# Altium footprint library SOJ.PcbLib: 5 footprints
Each footprint in its own frame and in the unit in brackets; x right, y up, seen from the top. Pads: shape width x height; smd on the part's side, far side on the other; paste and mask are expansions set on the pad; w line width, h text height; cw(c..) or ccw(c..) is an arc to the next point about the centre after c.
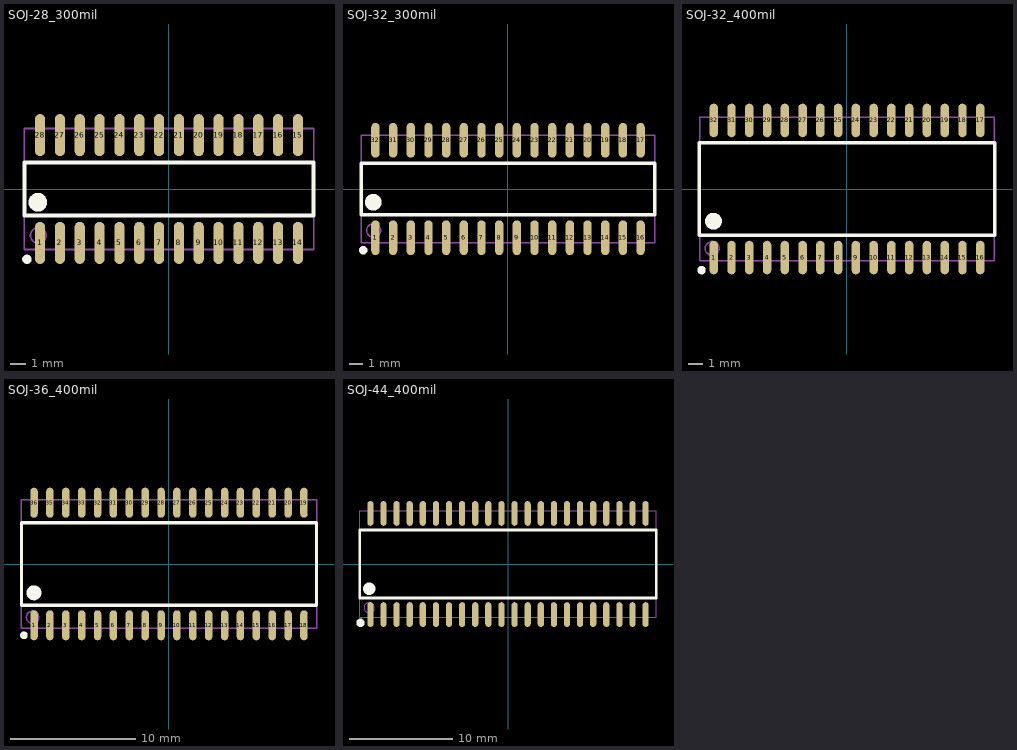
[diagram p0: the footprints below, top view; thin cyan lines are the x and y axes]

## SOJ-28_300mil [mm]
pads (28):
  oval 0.65x2.7 smd: 1(-8.255,-3.45) 2(-6.985,-3.45) 3(-5.715,-3.45) 4(-4.445,-3.45) 5(-3.175,-3.45) 6(-1.905,-3.45) 7(-0.635,-3.45) 8(0.635,-3.45) 9(1.905,-3.45) 10(3.175,-3.45) 11(4.445,-3.45) 12(5.715,-3.45) 13(6.985,-3.45) 14(8.255,-3.45) 15(8.255,3.45) 16(6.985,3.45) 17(5.715,3.45) 18(4.445,3.45) 19(3.175,3.45) 20(1.905,3.45) 21(0.635,3.45) 22(-0.635,3.45) 23(-1.905,3.45) 24(-3.175,3.45) 25(-4.445,3.45) 26(-5.715,3.45) 27(-6.985,3.45) 28(-8.255,3.45)
Top Overlay:
  circle w0.6: c-8.4,-0.85 r0.3
  circle w0.3: c-9.1,-4.5 r0.15
  lines w0.254: -9.25,-1.7 9.25,-1.7 9.25,1.7 -9.25,1.7 -9.25,-1.7
Mechanical 13:
  circle w0.1: c-8.37,-2.975 r0.5
  lines w0.1: -9.27,-3.875 9.27,-3.875 9.27,3.875 -9.27,3.875 -9.27,-3.875

## SOJ-32_300mil [mm]
pads (32):
  oval 0.6x2.5 smd: 1(-9.525,-3.5) 2(-8.255,-3.5) 3(-6.985,-3.5) 4(-5.715,-3.5) 5(-4.445,-3.5) 6(-3.175,-3.5) 7(-1.905,-3.5) 8(-0.635,-3.5) 9(0.635,-3.5) 10(1.905,-3.5) 11(3.175,-3.5) 12(4.445,-3.5) 13(5.715,-3.5) 14(6.985,-3.5) 15(8.255,-3.5) 16(9.525,-3.5) 17(9.525,3.5) 18(8.255,3.5) 19(6.985,3.5) 20(5.715,3.5) 21(4.445,3.5) 22(3.175,3.5) 23(1.905,3.5) 24(0.635,3.5) 25(-0.635,3.5) 26(-1.905,3.5) 27(-3.175,3.5) 28(-4.445,3.5) 29(-5.715,3.5) 30(-6.985,3.5) 31(-8.255,3.5) 32(-9.525,3.5)
Top Overlay:
  circle w0.6: c-9.675,-0.95 r0.3
  circle w0.3: c-10.4,-4.4 r0.15
  lines w0.254: -10.55,-1.85 -10.55,1.85 10.55,1.85 10.55,-1.85 -10.55,-1.85
Mechanical 13:
  circle w0.1: c-9.645,-2.975 r0.5
  lines w0.1: -10.545,-3.875 -10.545,3.875 10.545,3.875 10.545,-3.875 -10.545,-3.875

## SOJ-32_400mil [mm]
pads (32):
  oval 0.6x2.4 smd: 1(-9.525,-4.9) 2(-8.255,-4.9) 3(-6.985,-4.9) 4(-5.715,-4.9) 5(-4.445,-4.9) 6(-3.175,-4.9) 7(-1.905,-4.9) 8(-0.635,-4.9) 9(0.635,-4.9) 10(1.905,-4.9) 11(3.175,-4.9) 12(4.445,-4.9) 13(5.715,-4.9) 14(6.985,-4.9) 15(8.255,-4.9) 16(9.525,-4.9) 17(9.525,4.9) 18(8.255,4.9) 19(6.985,4.9) 20(5.715,4.9) 21(4.445,4.9) 22(3.175,4.9) 23(1.905,4.9) 24(0.635,4.9) 25(-0.635,4.9) 26(-1.905,4.9) 27(-3.175,4.9) 28(-4.445,4.9) 29(-5.715,4.9) 30(-6.985,4.9) 31(-8.255,4.9) 32(-9.525,4.9)
Top Overlay:
  circle w0.3: c-10.4,-5.8 r0.15
  circle w0.6: c-9.55,-2.3 r0.3
  lines w0.254: -10.55,-3.3 10.55,-3.3 10.55,3.3 -10.55,3.3 -10.55,-3.3
Mechanical 13:
  circle w0.1: c-9.64,-4.245 r0.5
  lines w0.1: -10.54,-5.145 10.54,-5.145 10.54,5.145 -10.54,5.145 -10.54,-5.145

## SOJ-36_400mil [mm]
pads (36):
  oval 0.6x2.4 smd: 1(-10.795,-4.9) 2(-9.525,-4.9) 3(-8.255,-4.9) 4(-6.985,-4.9) 5(-5.715,-4.9) 6(-4.445,-4.9) 7(-3.175,-4.9) 8(-1.905,-4.9) 9(-0.635,-4.9) 10(0.635,-4.9) 11(1.905,-4.9) 12(3.175,-4.9) 13(4.445,-4.9) 14(5.715,-4.9) 15(6.985,-4.9) 16(8.255,-4.9) 17(9.525,-4.9) 18(10.795,-4.9) 19(10.795,4.9) 20(9.525,4.9) 21(8.255,4.9) 22(6.985,4.9) 23(5.715,4.9) 24(4.445,4.9) 25(3.175,4.9) 26(1.905,4.9) 27(0.635,4.9) 28(-0.635,4.9) 29(-1.905,4.9) 30(-3.175,4.9) 31(-4.445,4.9) 32(-5.715,4.9) 33(-6.985,4.9) 34(-8.255,4.9) 35(-9.525,4.9) 36(-10.795,4.9)
Top Overlay:
  circle w0.3: c-11.6,-5.7 r0.15
  circle w0.6: c-10.8,-2.3 r0.3
  lines w0.254: -11.8,-3.3 11.8,-3.3 11.8,3.3 -11.8,3.3 -11.8,-3.3
Mechanical 13:
  circle w0.1: c-10.91,-4.245 r0.5
  lines w0.1: -11.81,-5.145 11.81,-5.145 11.81,5.145 -11.81,5.145 -11.81,-5.145

## SOJ-44_400mil [mm]
pads (44):
  oval 0.6x2.4 smd: 1(-13.335,-4.9) 2(-12.065,-4.9) 3(-10.795,-4.9) 4(-9.525,-4.9) 5(-8.255,-4.9) 6(-6.985,-4.9) 7(-5.715,-4.9) 8(-4.445,-4.9) 9(-3.175,-4.9) 10(-1.905,-4.9) 11(-0.635,-4.9) 12(0.635,-4.9) 13(1.905,-4.9) 14(3.175,-4.9) 15(4.445,-4.9) 16(5.715,-4.9) 17(6.985,-4.9) 18(8.255,-4.9) 19(9.525,-4.9) 20(10.795,-4.9) 21(12.065,-4.9) 22(13.335,-4.9) 23(13.335,4.9) 24(12.065,4.9) 25(10.795,4.9) 26(9.525,4.9) 27(8.255,4.9) 28(6.985,4.9) 29(5.715,4.9) 30(4.445,4.9) 31(3.175,4.9) 32(1.905,4.9) 33(0.635,4.9) 34(-0.635,4.9) 35(-1.905,4.9) 36(-3.175,4.9) 37(-4.445,4.9) 38(-5.715,4.9) 39(-6.985,4.9) 40(-8.255,4.9) 41(-9.525,4.9) 42(-10.795,4.9) 43(-12.065,4.9) 44(-13.335,4.9)
Top Overlay:
  circle w0.6: c-13.45,-2.4 r0.3
  circle w0.4: c-14.3,-5.7 r0.2
  lines w0.254: -14.35,-3.3 -14.35,3.3 14.35,3.3 14.35,-3.3 -14.35,-3.3
Mechanical 13:
  circle w0.1: c-13.45,-4.245 r0.5
  lines w0.1: -14.35,-5.145 -14.35,5.145 14.35,5.145 14.35,-5.145 -14.35,-5.145